# EAGLE library part MPT7 (library connectors)
PHOENIX CONNECTOR
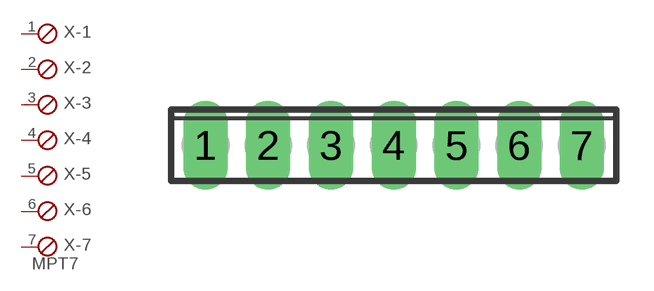
[diagram p59: symbol with the pads of 7POL254; footprint 7POL254]

Designator prefix X; gates -1=SKB -2=SKB -3=SKB -4=SKB -5=SKB -6=SKB -7=SKBV

## MPT7 (OC_FARNELL: unknown; OC_NEWARK: unknown)  [7POL254]
1  -1:1  pas
2  -2:1  pas
3  -3:1  pas
4  -4:1  pas
5  -5:1  pas
6  -6:1  pas
7  -7:1  pas

## Footprint 7POL254 (pad centres in mm)
PHOENIX CONNECTOR
drill 1.2 long: 1 -7.62,0; 2 -5.08,0; 3 -2.54,0; 4 0,0; 5 2.54,0; 6 5.08,0; 7 7.62,0